# Altium footprint library fuses.PcbLib: 24 footprints (part 1 of 2)
Each footprint in its own frame and in the unit in brackets; x right, y up, seen from the top. Pads: shape width x height; smd on the part's side, far side on the other; paste and mask are expansions set on the pad; w line width, h text height; cw(c..) or ccw(c..) is an arc to the next point about the centre after c.
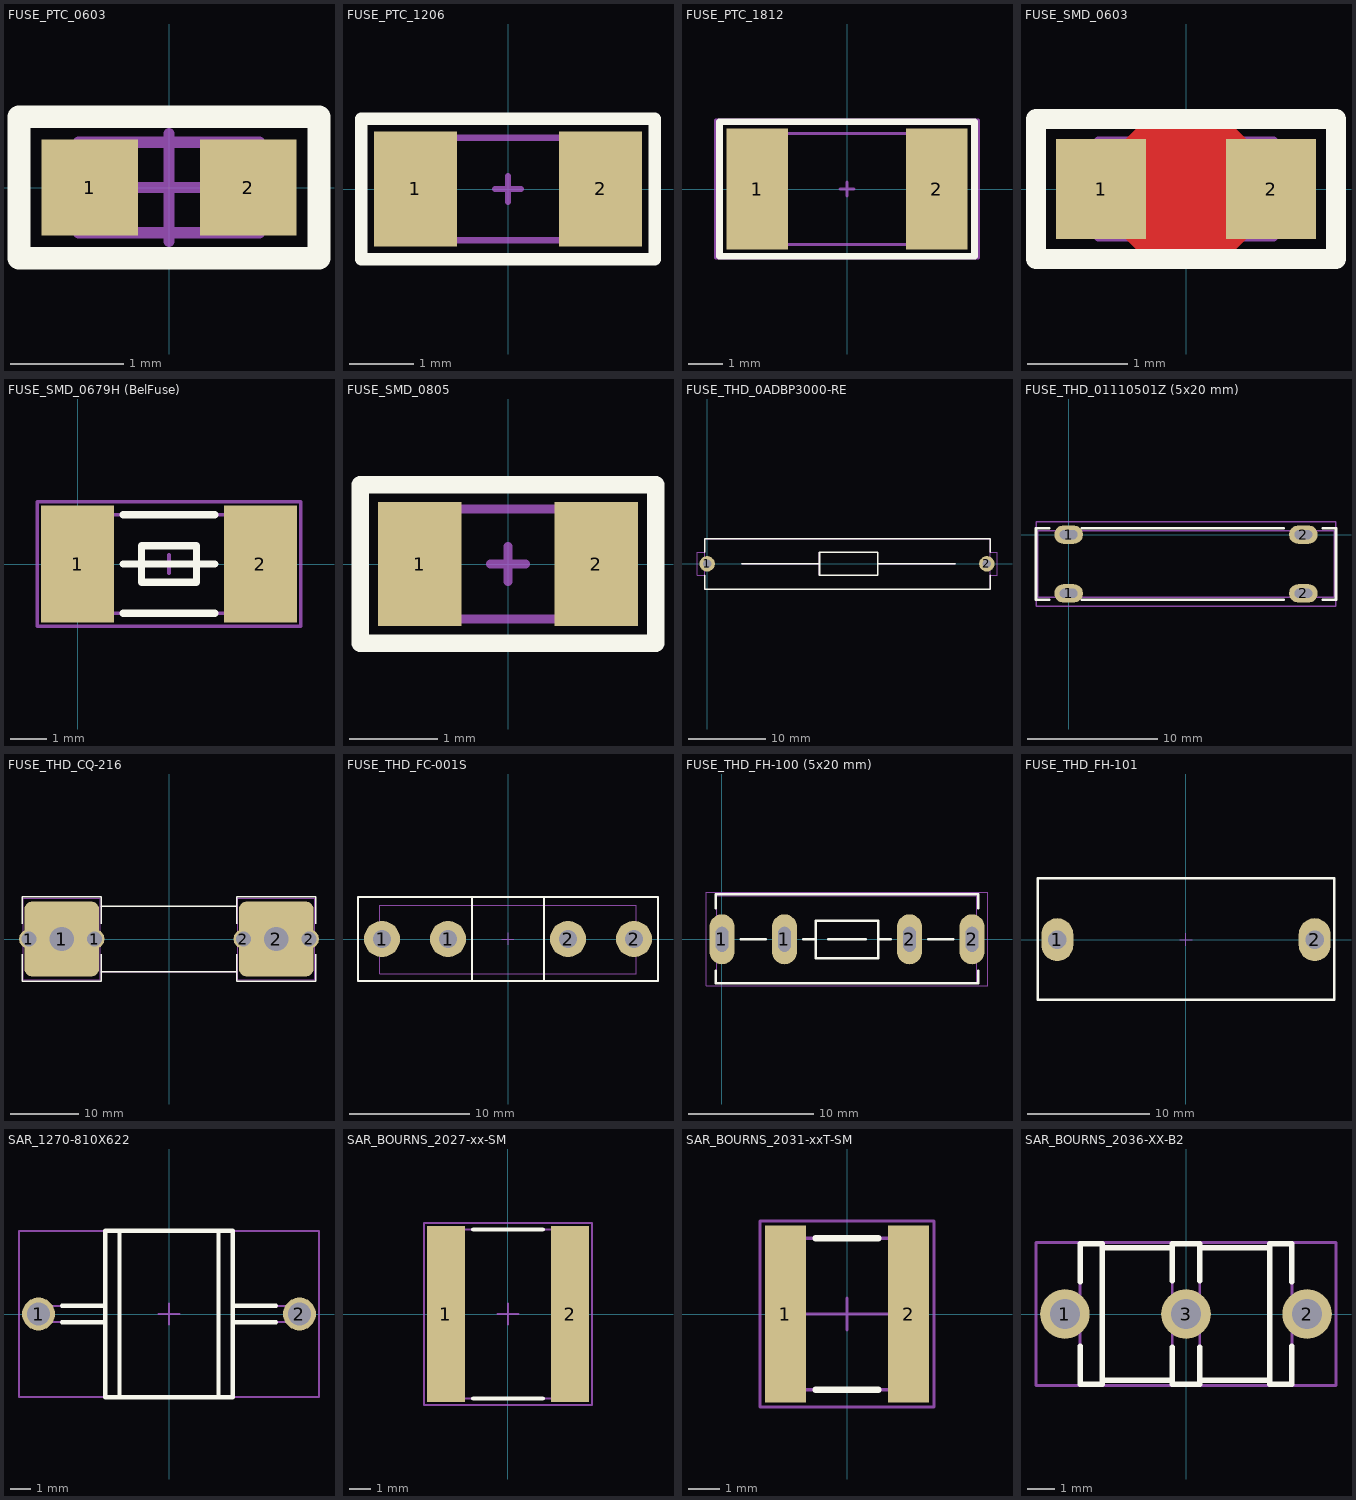
[diagram p0: the footprints below, top view; thin cyan lines are the x and y axes]

## FUSE_PTC_0603 [mm]
pads (2):
  rect 0.85x0.85 smd: 1(-0.7,0) 2(0.7,0)
Top Overlay:
  lines w0.2: -1.325,-0.625 -1.325,0.625 1.325,0.625 1.325,-0.625 -1.325,-0.625
Mechanical 1:
  lines w0.1: -0.8,-0.4 -0.8,0.4 0.8,0.4 0.8,-0.4 -0.8,-0.4
Mechanical 15:
  lines w0.1: -0.475,0 0.475,0 ; 0,-0.475 0,0.475 ; -1.325,-0.65 1.325,-0.65 1.325,0.625 -1.325,0.625 -1.325,-0.65
3D body "User Library-MF-FSMF020X_FUSE0603.STEP": height 0.53, standoff 0, extent -0.825,-0.425 0.825,0.425

## FUSE_PTC_1206 [mm]
height 0.7
pads (2):
  rect 1.3x1.8 smd: 1(-1.45,0) 2(1.45,0)
Top Overlay:
  lines w0.2: -2.3,-1.1 2.3,-1.1 2.3,1.1 -2.3,1.1 -2.3,-1.1
Mechanical 1:
  lines w0.1: -1.6,-0.8 1.6,-0.8 1.6,0.8 -1.6,0.8 -1.6,-0.8
Mechanical 15:
  lines w0.1: -0.2,0 0.2,0 ; 0,-0.2 0,0.2 ; -2.3,-1.1 -2.3,1.1 2.3,1.1 2.3,-1.1 -2.3,-1.1
3D body "User Library-0ZCJ0035FF2G-1.STEP": height 0.51, standoff 0.01, extent -1.7,-0.85 1.7,0.85

## FUSE_PTC_1812 [mm]
height 0.6
pads (2):
  rect 1.78x3.5 smd: 1(-2.6,0) 2(2.6,0)
Top Overlay:
  lines w0.2: -3.7,-1.95 -3.7,1.95 3.7,1.95 3.7,-1.95 -3.7,-1.95
Mechanical 1:
  lines w0.1: -2.41,-1.61 2.41,-1.61 2.41,1.61 -2.41,1.61 -2.41,-1.61
Mechanical 15:
  lines w0.1: -0.2,0 0.2,0 ; 0,-0.2 0,0.2 ; -3.8,-2 -3.7,-2 3.8,-2 3.8,2 -3.8,2 -3.8,-2
3D body "User Library-fuse1812.step": height 1.32, standoff 0, extent -2.41,-1.61 2.41,1.61

## FUSE_SMD_0603 [mm]
height 0.55
pads (2):
  rect 0.9x1 smd: 1(-0.85,0) 2(0.85,0)
Top Layer:
  pour cut-out: -0.6,0.5 -0.4,0.7 0.4,0.7 0.6,0.5 0.6,-0.5 0.4,-0.7 -0.4,-0.7 -0.6,-0.5
Top Overlay:
  lines w0.2: -1.5,-0.7 1.5,-0.7 1.5,0.7 -1.5,0.7 -1.5,-0.7
Mechanical 1:
  lines w0.1: -0.875,-0.475 0.875,-0.475 0.875,0.475 -0.875,0.475 -0.875,-0.475
Mechanical 15:
  lines w0.1: -0.2,0 0.2,0 ; 0,-0.2 0,0.2 ; -1.5,-0.7 -1.4,-0.7 1.5,-0.7 1.5,0.7 -1.5,0.7 -1.5,-0.7
3D body "RES 0603 (1608 metric).STEP": height 0.54, standoff -0.01, extent -0.875,-0.475 0.875,0.475

## FUSE_SMD_0679H (BelFuse) [mm]
pads (2):
  rect 2x3.2 smd mask+0.075: 1(0,0) 2(5,0)
Top Overlay:
  lines w0.2: 1.25,-1.35 3.75,-1.35 ; 1.25,0 3.75,0 ; 1.25,1.35 3.75,1.35 ; 1.75,-0.5 3.25,-0.5 3.25,0.5 1.75,0.5 1.75,-0.5
Mechanical 1:
  lines w0.1: -0.55,-1.35 5.55,-1.35 5.55,1.35 -0.55,1.35 -0.55,-1.35
Mechanical 15:
  lines w0.1: 2.25,0 2.75,0 ; 2.5,-0.25 2.5,0.25 ; -1.1,-1.7 -1.1,1.7 6.1,1.7 6.1,-1.7 -1.1,-1.7
3D body "User Library-fuse smd.STEP": height 2.69, standoff 0, extent -0.55,-1.35 5.55,1.34

## FUSE_SMD_0805 [mm]
pads (2):
  rect 0.95x1.4 smd: 1(-1,0) 2(1,0)
Top Overlay:
  lines w0.2: -1.675,-0.9 1.675,-0.9 1.675,0.9 -1.675,0.9 -1.675,-0.9
Mechanical 1:
  lines w0.1: -1,-0.625 1,-0.625 1,0.625 -1,0.625 -1,-0.625
Mechanical 15:
  lines w0.1: -0.2,0 0.2,0 ; 0,-0.2 0,0.2 ; -1.7,-0.9 -1.7,0.9 1.7,0.9 1.7,-0.9 -1.7,-0.9
3D body: height 0.5, standoff 0, extent -1,-0.625 1,0.625

## FUSE_THD_0ADBP3000-RE [mm]
pads (2):
  round 2 hole 1.1: 1(0,0) 2(36.1,0)
Top Overlay:
  lines w0.2: -0.31,-1.5 -0.31,-3.3 36.51,-3.3 36.51,-1.5 ; -0.31,1.5 -0.31,3.25 36.51,3.25 36.51,1.5 ; 4.5,0 14.5,0 ; 22,0 32,0 ; 14.5,0 14.5,-1.5 22,-1.5 22,1.5 14.5,1.5 14.5,0
Mechanical 1:
  lines w0.1: 4.5,0 14.5,0 ; 22,0 32,0 ; 14.5,0 14.5,1.5 22,1.5 22,-1.5 14.5,-1.5 14.5,0 ; -0.31,-3.3 -0.31,3.25 36.51,3.25 36.51,-3.3 -0.31,-3.3
Mechanical 15:
  lines w0.1: -1.3,-1.5 -0.31,-1.5 -0.31,-3.3 36.51,-3.3 36.51,-1.5 37.4,-1.5 37.4,1.5 36.51,1.5 36.51,3.25 -0.31,3.25 -0.31,1.5 -1.3,1.5 -1.3,-1.5
3D body "fuse.STEP": height 6.78, standoff -1.8, extent -0.31,-3.3 36.51,3.25

## FUSE_THD_01110501Z (5x20 mm) [mm]
pads (4):
  oval 2.2x1.4 hole 0.7 slot 1.35 at 0 deg: 1(0,-4.5) 1(0,0) 2(18,-4.5) 2(18,0)
Top Overlay:
  lines w0.2: -1.5,-5 -2.5,-5 -2.5,0.5 -1.5,0.5 ; 1,-5 16.5,-5 ; 1,0.5 16.5,0.5 ; 19.5,-5 20.5,-5 20.5,0.5 19.5,0.5
Mechanical 1:
  lines w0.1: 20.35,-4.8 -2.35,-4.8 -2.35,0.3 20.35,0.3 ; 20.35,-4.8 20.35,0.3 ; 20.35,-4.8 20.35,-4.8 ; 20.35,0.3 20.35,0.3
Mechanical 15:
  lines w0.1: -2.5,-5.5 20.5,-5.5 20.5,1 -2.5,1 -2.5,-5.5
3D body "User Library-FUSIVEL.STEP": height 8.5, standoff 3.5, extent -1,-4.7 19,0.3
3D body "01110501Z.STEP": height 7.25, standoff -3.1, extent 15.55,-4.8 20.35,0.3
3D body "01110501Z.STEP": height 7.25, standoff -3.1, extent -2.35,-4.8 2.45,0.3

## FUSE_THD_CQ-216 [mm]
pads (6):
  round 2.9 hole 2.2: 1(-20.65,0) 1(-10.95,0) 2(10.95,0) 2(20.65,0)
  rrect20% 11x11 / inner round 5.5 / far side round 5.5 hole 3.6: 1(-15.8,0) 2(15.8,0)
Top Overlay:
  lines w0.2: -21.65,-2.25 -21.65,-6.2 -9.95,-6.2 -9.95,-2.25 ; -21.65,2.25 -21.65,6.2 -9.95,6.2 -9.95,2.25 ; -9.95,-4.8 9.95,-4.8 ; -9.95,4.8 9.95,4.8 ; 9.95,-2.25 9.95,-6.2 21.65,-6.2 21.65,-2.25 ; 9.95,2.25 9.95,6.2 21.65,6.2 21.65,2.25
Mechanical 14:
  lines w0.1: -10.15,-4.8 10.15,-4.8 ; -10.15,4.8 10.15,4.8 ; -21.45,-6 -21.45,6 -10.15,6 -10.15,-6 -21.45,-6 ; 10.15,-6 10.15,6 21.45,6 21.45,-6 10.15,-6
3D body "FUSH_BUSSMANN_1A3400-09.stp": height 18, standoff -3.8, extent 10.25,-5.948 21.35,5.948
3D body "FUSH_BUSSMANN_1A3400-09.stp": height 18, standoff -3.8, extent -21.35,-5.948 -10.25,5.948
3D body "FUSE_10X38_H_Part1.stp": height 17.3, standoff 7, extent -19,-5.15 19,5.15
3D body "FUSE_10X38_H_Part2.stp": height 17, standoff 7.3, extent -9,-4.85 9,4.85

## FUSE_THD_FC-001S [mm]
height 15
pads (4):
  round 3 hole 1.5: 1(-10.5,0) 1(-5,0) 2(5,0) 2(10.5,0)
Top Overlay:
  lines w0.2: -3,-3.5 -3,3.5 ; 3,-3.5 3,3.5 ; -12.5,-3.5 12.5,-3.5 12.5,3.5 -12.5,3.5 -12.5,-3.5
Mechanical 1:
  lines w0.1: -3,-2.9 -3,2.8 ; 3,-2.9 3,2.8 ; -10.7,-2.9 -10.7,2.8 10.7,2.8 10.7,-2.9 -10.7,-2.9
Mechanical 15:
  lines w0.1: -0.5,0 0.5,0 ; 0,-0.5 0,0.5 ; -12.5,-3.5 12.5,-3.5 12.5,3.5 -12.5,3.5 -12.5,-3.5
3D body "FC-001S.STEP": height 5.5, standoff -2.81, extent -10.7,-2.9 10.7,2.798

## FUSE_THD_FH-100 (5x20 mm) [mm]
pads (4):
  oval 2x4 hole 2 slot 1 at 0 deg: 1(0,0) 1(5,0) 2(15,0) 2(20,0)
Top Overlay:
  lines w0.2: -0.5,-2.5 -0.5,-3.5 20.5,-3.5 20.5,-2.5 ; -0.5,2.5 -0.5,3.6 20.5,3.6 20.5,2.5 ; 1.5,0 3.5,0 ; 6.5,0 7.5,0 ; 8.5,0 11.5,0 ; 12.5,0 13.5,0 ; 16.5,0 18.5,0 ; 7.5,-1.5 7.5,1.5 12.5,1.5 12.5,-1.5 7.5,-1.5
Mechanical 1:
  lines w0.1: 1.5,0 3.5,0 ; 6.5,0 7.5,0 ; 12.5,0 13.5,0 ; 16.5,0 18.5,0 ; 7.5,0 7.5,1.5 12.5,1.5 12.5,-1.5 7.5,-1.5 7.5,0 ; -0.4,-3.5 -0.4,3.5 20.4,3.5 20.4,-3.5 -0.4,-3.5
Mechanical 15:
  lines w0.1: -1.25,-3.7 -1.25,3.75 21.25,3.75 21.25,-3.7 -1.25,-3.7
3D body "User Library-Clips FH-100 with fuse 5x20.STEP": height 9.99, standoff -3.5, extent -0.4,-3.5 20.4,3.5

## FUSE_THD_FH-101 [mm] "Fuse connector PCB mount"
height 12
pads (2):
  oval 2.6x3.5 hole 1.5: 1(-10.5,0) 2(10.5,0)
Top Overlay:
  lines w0.2: -12.1,-4.9 -12.1,5 12.1,5 12.1,-4.9 -12.1,-4.9
Mechanical 1:
  lines w0.1: -12.1,-4.9 12.1,-4.9 12.1,5 -12.1,5 -12.1,-4.9
Mechanical 15:
  lines w0.1: -0.5,0 0.5,0 ; 0,-0.5 0,0.5 ; -12.1,-4.9 -12.1,5 12.1,5 12.1,-4.9 -12.1,-4.9
3D body "����_��������������_FH-101.STEP": height 11, standoff -2, extent -12.024,-4.826 11.976,4.974

## SAR_1270-810X622 [mm] "Surge Arrester,Axial Diameter, Leads Spacing 12.7mm, D8.1mm x L 6.22"
height 8.1
pads (2):
  round 1.6 hole 1.1: 1(-6.35,0) 2(6.35,0)
Top Overlay:
  lines w0.2: -5.2,-0.4 -3.1,-0.4 ; -5.2,0.4 -3.1,0.4 ; -2.4,-4.05 -2.4,4.05 ; 2.4,-4.05 2.4,4.05 ; 3.1,-0.4 5.2,-0.4 ; 3.1,0.4 5.2,0.4 ; -3.1,-4.05 3.1,-4.05 3.1,4.05 -3.1,4.05 -3.1,-4.05
Mechanical 1:
  lines w0.1: -3.1,-0.4 -6.35,-0.4 cw(c-6.35,0) -6.35,0.4 -3.1,0.4 ; -2.4,-4.05 -2.4,4.05 ; 2.4,-4.05 2.4,4.05 ; 3.1,-0.4 6.35,-0.4 ccw(c6.35,0) 6.35,0.4 3.1,0.4 ; -3.1,-4.05 3.1,-4.05 3.1,4.05 -3.1,4.05 -3.1,-4.05
Mechanical 15:
  lines w0.1: -0.5,0 0.5,0 ; 0,-0.5 0,0.5 ; -7.3,-4.05 7.3,-4.05 7.3,4.05 -7.3,4.05 -7.3,-4.05
3D body "SARDAD1270-810X622.stp": height 8.1, standoff -3.8, extent -6.75,-4.05 6.75,4.05

## SAR_BOURNS_2027-xx-SM [mm] "2-electrode Precision Gas Discharge Tube Surge Protector Body D7.93mm x L6.42mm"
height 7.93
pads (2):
  rect 1.78x8.25 smd: 1(-2.92,0) 2(2.92,0)
Top Overlay:
  lines w0.2: -1.63,-3.965 1.63,-3.965 ; -1.63,3.965 1.63,3.965
Mechanical 1:
  lines w0.1: -3.21,-2.97 -2.5,-2.97 ; -3.21,2.97 -2.5,2.97 ; -2.5,-3.96 -2.5,3.96 ; 2.78,-3.865 2.88,-3.965 3.11,-3.965 3.21,-3.865 3.21,3.865 3.11,3.965 2.88,3.965 2.78,3.865 ; -3.21,-3.965 -3.21,3.965 2.78,3.965 2.78,-3.965 -3.21,-3.965
Mechanical 15:
  lines w0.1: -0.5,0 0,0 ; 0,-0.5 0,0 ; 0,0.5 0,0 ; 0.5,0 0,0 ; -3.95,-4.275 -3.95,4.275 3.95,4.275 3.95,-4.275 -3.95,-4.275
3D body "SAR_BOURNS_2027-xx-SM.stp": height 7.93, standoff -0.01, extent -3.21,-3.965 3.21,3.965

## SAR_BOURNS_2031-xxT-SM [mm] "2-Electrode Miniature Fast Acting Surge Arrestor ,Body D5mm x L4.4mm"
height 5
pads (2):
  rect 1.3x5.6 smd: 1(-1.95,0) 2(1.95,0)
Top Overlay:
  lines w0.2: -1,-2.4 1,-2.4 ; -1,2.4 1,2.4
Mechanical 1:
  lines w0.1: -2.2,-1.658 -1.7,-1.658 ; -2.2,0 2.2,0 ; -2.2,1.658 -1.7,1.658 ; -1.7,-2.4 1.7,-2.4 ; -1.7,2.4 1.7,2.4 ; -1.4,-2.4 -1.4,2.4 ; -2.2,-2.5 -1.7,-2.5 -1.7,2.5 -2.2,2.5 -2.2,-2.5 ; 1.7,-2.5 2.2,-2.5 2.2,2.5 1.7,2.5 1.7,-2.5
Mechanical 15:
  lines w0.1: -0.5,0 0,0 ; 0,-0.5 0,0 ; 0,0.5 0,0 ; 0.5,0 0,0 ; -2.75,-2.95 2.75,-2.95 2.75,2.95 -2.75,2.95 -2.75,-2.95
3D body "SAR_BOURNS_2031-xxT-SM.stp": height 5, standoff 0, extent -2.2,-2.5 2.2,2.5

## SAR_BOURNS_2036-XX-B2 [mm] "Miniature 3-Poles Gas Discharge Tube Body D5.1 mm x L7.55 mm"
height 5.1
pads (3):
  round 1.8 hole 1.1: 1(-4.4,0) 2(4.4,0) 3(0,0)
Top Overlay:
  lines w0.2: -3.85,-1.178 -3.85,-2.55 -3.05,-2.55 -3.05,2.55 -3.85,2.55 -3.85,1.178 ; -3.05,-2.4 -0.5,-2.4 ; -3.05,2.4 -0.5,2.4 ; -0.5,-1.2 -0.5,-2.55 0.5,-2.55 0.5,-1.2 ; -0.5,1.2 -0.5,2.55 0.5,2.55 0.5,1.2 ; 0.5,-2.4 3.05,-2.4 ; 0.5,2.4 3.05,2.4 ; 3.85,-1.178 3.85,-2.55 3.05,-2.55 3.05,2.55 3.85,2.55 3.85,1.178
Mechanical 1:
  lines w0.1: -3.85,-0.4 -4.4,-0.4 cw(c-4.4,0) -4.4,0.4 -3.85,0.4 ; -3.05,-2.4 -0.5,-2.4 ; -3.05,2.4 -0.5,2.4 ; 0.5,-2.4 3.05,-2.4 ; 0.5,2.4 3.05,2.4 ; 3.85,-0.4 4.4,-0.4 ccw(c4.4,0) 4.4,0.4 3.85,0.4 ; -3.85,-2.55 -3.05,-2.55 -3.05,2.55 -3.85,2.55 -3.85,-2.55 ; -0.5,-2.55 0.5,-2.55 0.5,2.55 -0.5,2.55 -0.5,-2.55 ; 3.05,-2.55 3.85,-2.55 3.85,2.55 3.05,2.55 3.05,-2.55
Mechanical 15:
  lines w0.1: -0.5,0 0,0 ; 0,-0.5 0,0 ; 0,0.5 0,0 ; 0.5,0 0,0 ; -5.45,-2.6 5.45,-2.6 5.45,2.6 -5.45,2.6 -5.45,-2.6
3D body "SAR_BOURNS_2036-XX-B2.stp": height 5.1, standoff -3.2, extent -4.8,-2.55 4.8,2.55